# EAGLE library part CL-SB-23B-01T (library MADCAT-BBB-Cape)
CL-SB-01T DP3T surface mount switch 1-2, 2-3, 3-4 not tested yet
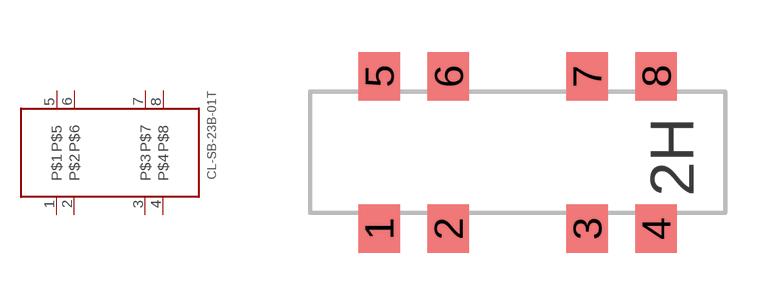
[diagram p0: symbol with the pads of CL-SB-23B; footprint CL-SB-23B]

Designator prefix -

## CL-SB-23B-01TSMD  [CL-SB-23B]
1  P$1
2  P$2
3  P$3
4  P$4
5  P$5
6  P$6
7  P$7
8  P$8

## Footprint CL-SB-23B (pad centres in mm)
The footprint for the Copal Electronics switch CL-SB-23B layout This is a new untested footprint
smd 1.2 x 1.4: 1 -4,-2.2; 2 -2,-2.2; 3 2,-2.2; 4 4,-2.2; 5 -4,2.2; 6 -2,2.2; 7 2,2.2; 8 4,2.2